# Altium footprint library Murata.PcbLib: 14 footprints
Each footprint in its own frame and in the unit in brackets; x right, y up, seen from the top. Pads: shape width x height; smd on the part's side, far side on the other; paste and mask are expansions set on the pad; w line width, h text height; cw(c..) or ccw(c..) is an arc to the next point about the centre after c.
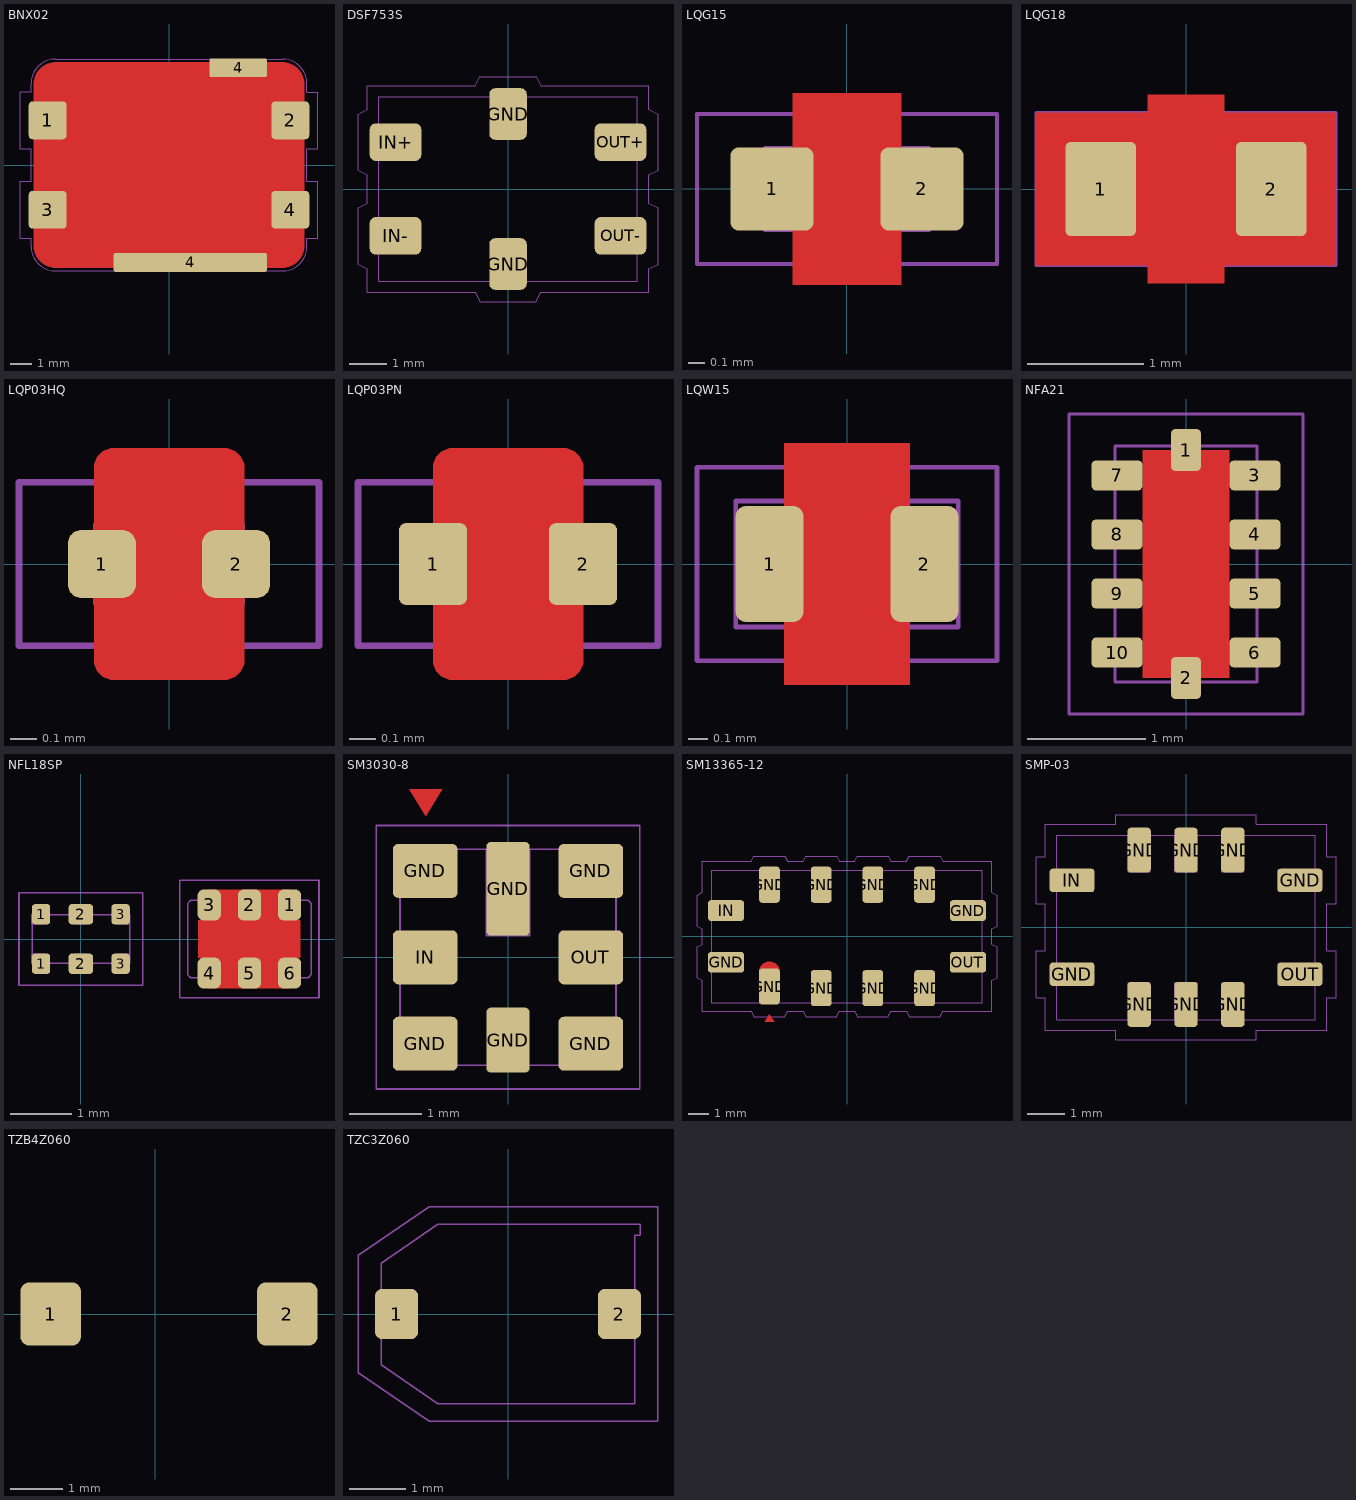
[diagram p0: the footprints below, top view; thin cyan lines are the x and y axes]

## BNX02 [mil]
pads (6):
  rrect20% 70x70 smd paste-2: 1(-224.41,82.68) 2(224.41,82.68) 3(-224.41,-82.68) 4(224.41,-82.68)
  rrect20% 283.46x35 smd paste+0: 4(39.37,-180)
  rrect20% 106.3x35 smd paste+0: 4(127.95,180)
Top Layer:
  pour cut-out: -210,190 -213.94,190 -221.67,188.46 -228.95,185.45 -235.5,181.07 -241.07,175.5 -245.45,168.95 -248.46,161.67 -250,153.94 -250,150 -250,-150 -250,-153.94 -248.46,-161.67 -245.45,-168.95 -241.07,-175.5 -235.5,-181.07 -228.95,-185.45 -221.67,-188.46 -213.94,-190 -210,-190 210,-190 213.94,-190 221.67,-188.46 228.95,-185.45 235.5,-181.07 241.07,-175.5 245.45,-168.95 248.46,-161.67 250,-153.94 250,-150 250,150 250,153.94 248.46,161.67 245.45,168.95 241.07,175.5 235.5,181.07 228.95,185.45 221.67,188.46 213.94,190 210,190
Top Designator:
  text ".Designator" at -127.64,-12.5 h35
Top Courtyard:
  lines w1: -275,-135 -255,-135 -255,-150.94 ccw(c-210,-150.94) -210,-195.94 210,-195.94 ccw(c210,-150.94) 255,-150.94 255,-135.35 275,-135.35 275,-30.35 255,-30.35 255,30 275,30 275,135 255,135 255,150.94 ccw(c210,150.94) 210,195.94 -210,195.94 ccw(c-210,150.94) -255,150.94 -255,135.35 -275,135.35 -275,30.35 -255,30.35 -255,-30 -275,-30 -275,-135
Top Component Outline:
  lines w1: -238.19,-108.27 -238.19,-57.09 -198.82,-57.09 -198.82,-108.27 -238.19,-108.27 ; -238.19,57.09 -198.82,57.09 -198.82,108.27 -238.19,108.27 -238.19,57.09 ; -236.22,-150.94 ccw(c-210,-150.94) -210,-177.17 210,-177.17 ccw(c210,-150.94) 236.22,-150.94 236.22,150.94 ccw(c210,150.94) 210,177.17 -210,177.17 ccw(c-210,150.94) -236.22,150.94 -236.22,-150.94 ; -98.43,-179.13 177.17,-179.13 177.17,-167.32 -98.43,-167.32 -98.43,-179.13 ; 78.74,167.32 78.74,179.13 177.17,179.13 177.17,167.32 78.74,167.32 ; 198.82,-108.27 238.19,-108.27 238.19,-57.09 198.82,-57.09 198.82,-108.27 ; 198.82,57.09 198.82,108.27 238.19,108.27 238.19,57.09 198.82,57.09
3D body: height 62.99, standoff 0, extent 198.82,-108.27 238.19,-57.09
3D body: height 62.99, standoff 0, extent 198.82,57.09 238.19,108.27
3D body: height 62.99, standoff 0, extent -238.19,-108.27 -198.82,-57.09
3D body: height 62.99, standoff 0, extent -238.19,57.09 -198.82,108.27
3D body: height 41.34, standoff 0, extent 78.74,167.32 177.17,179.13
3D body: height 41.34, standoff 0, extent -98.43,-179.13 177.17,-167.32
3D body: height 137.8, standoff 0, extent -236.22,-177.17 236.22,177.17

## DSF753S [mil]
height 51.18
pads (6):
  rrect30% 40x55 smd mask+2: GND(0,-80) GND(0,80)
  rrect30% 55x40 smd mask+2: IN+(-120,50) IN-(-120,-50) OUT+(120,50) OUT-(120,-50)
Top Designator:
  text ".Designator" at -127.64,-12.5 h35
Top Courtyard:
  lines w1: -160,-80 -160,-20 -150,-15 -150,15 -160,20 -160,80 -150,85 -150,110 -35,110 -30,120 30,120 35,110 150,110 150,85 160,80 160,20 150,15 150,-15 160,-20 160,-80 150,-85 150,-110 35,-110 30,-120 -30,-120 -35,-110 -150,-110 -150,-85 -160,-80
Top Component Outline:
  lines w1: -137.8,-61.81 -98.43,-61.81 -98.43,-38.19 -137.8,-38.19 ; -137.8,38.19 -98.43,38.19 -98.43,61.81 -137.8,61.81 ; -11.81,-98.43 -11.81,-59.06 11.81,-59.06 11.81,-98.43 ; -11.81,98.43 -11.81,59.06 11.81,59.06 11.81,98.43 ; 137.8,-61.81 98.43,-61.81 98.43,-38.19 137.8,-38.19 ; 137.8,38.19 98.43,38.19 98.43,61.81 137.8,61.81 ; -137.8,-98.43 -137.8,98.43 137.8,98.43 137.8,-98.43 -137.8,-98.43
3D body: height 64.96, standoff 0, extent -137.8,-98.43 137.8,98.43

## LQG15 [mil]
pads (2):
  rrect20% 20x20 smd mask+2: 1(-18,0) 2(18,0)
Top Layer:
  pour cut-out: -13,23 13,23 13,-23 -13,-23
Top Solder:
  rectangle: -16,-12 16,12
  rectangle: -8,-18 8,18
Top Designator:
  text ".Designator" at -91.17,-8.93 h25
Top Courtyard:
  lines w1: -36,-18 -36,18 36,18 36,-18 -36,-18
Top Component Outline:
  lines w1: -9.84,-9.84 -9.84,9.84 ; 9.84,-9.84 9.84,9.84 ; -19.68,-9.84 19.68,-9.84 19.68,9.84 -19.68,9.84 -19.68,-9.84
3D body: height 19.8, standoff 0.2, extent -19.68,-9.84 19.68,9.84
3D body: height 20, standoff 0, extent 10,-10 20,10
3D body: height 20, standoff 0, extent -20,-10 -10,10
3D body: height 19.81, standoff 19, extent -9,-9 0,9

## LQG18 [mil]
pads (2):
  rrect15% 24x32 smd paste-2 mask+2: 1(-29,0) 2(29,0)
Top Layer:
  pour cut-out: -13,26 -51,26 -51,-26 -13,-26 -13,-32 13,-32 13,-26 51,-26 51,26 13,26 13,32 -13,32
Top Solder:
  rectangle: -8,-27 8,27
Top Designator:
  text ".Designator" at -127.64,-12.5 h35
Top Courtyard:
  lines w1: -51,-26 -51,26 51,26 51,-26 -51,-26
Top Component Outline:
  lines w1: -17.72,-15.75 -17.72,15.75 ; 17.72,-15.75 17.72,15.75 ; -31.5,-15.75 31.5,-15.75 31.5,15.75 -31.5,15.75 -31.5,-15.75
3D body: height 29.81, standoff 29, extent -17,-14 0,14
3D body: height 29.8, standoff 0.2, extent -31.5,-15.75 31.5,15.75
3D body: height 30, standoff 0, extent -32,-16 -18,16
3D body: height 30, standoff 0, extent 18,-16 32,16

## LQP03HQ [mil]
pads (2):
  rrect40% 10x10 smd paste+0 mask+1.5: 1(-9.84,0) 2(9.84,0)
Top Layer:
  pour cut-out: -8,17 -8.6,17 -9.7,16.54 -10.54,15.7 -11,14.6 -11,14 -11,-14 -11,-14.6 -10.54,-15.7 -9.7,-16.54 -8.6,-17 -8,-17 8,-17 8.6,-17 9.7,-16.54 10.54,-15.7 11,-14.6 11,-14 11,14 11,14.6 10.54,15.7 9.7,16.54 8.6,17 8,17
Top Solder:
  rectangle: -6,-12.1 6,12.1
  rectangle: -11,-6.5 11,6.5
Top Designator:
  text ".Designator" at -72.94,-7.14 h20
Top Courtyard:
  lines w1: -22,-12 -22,12 22,12 22,-12 -22,-12
Top Component Outline:
  lines w0.2: -11.02,-5.12 11.02,-5.12 ; -11.02,5.12 11.02,5.12 ; -11.81,-4.33 -11.81,4.33 -5.91,4.33 -5.91,-4.33 -11.81,-4.33 ; -11.02,-5.91 11.02,-5.91 11.02,5.91 -11.02,5.91 -11.02,-5.91 ; 5.91,-4.33 5.91,4.33 11.81,4.33 11.81,-4.33 5.91,-4.33
3D body: height 15.75, standoff 0.2, extent -11.02,-5.91 11.02,-5.12
3D body: height 15.75, standoff 0.2, extent -11.02,5.12 11.02,5.91
3D body: height 15.75, standoff 0.2, extent -11.02,-5.12 11.02,5.12
3D body: height 7.87, standoff 0, extent 5.91,-4.33 11.81,4.33
3D body: height 7.87, standoff 0, extent -11.81,-4.33 -5.91,4.33

## LQP03PN [mil]
pads (2):
  rrect20% 10x12 smd paste+0 mask+1.5: 1(-11,0) 2(11,0)
Top Layer:
  pour cut-out: -8,17 -8.6,17 -9.7,16.54 -10.54,15.7 -11,14.6 -11,14 -11,-14 -11,-14.6 -10.54,-15.7 -9.7,-16.54 -8.6,-17 -8,-17 8,-17 8.6,-17 9.7,-16.54 10.54,-15.7 11,-14.6 11,-14 11,14 11,14.6 10.54,15.7 9.7,16.54 8.6,17 8,17
Top Solder:
  rectangle: -11,-7.5 11,7.5
  rectangle: -6,-12 6,12
Top Designator:
  text ".Designator" at -72.94,-7.14 h20
Top Courtyard:
  lines w1: -22,-12 -22,12 22,12 22,-12 -22,-12
Top Component Outline:
  lines w0.2: -7.87,-5.91 -7.87,5.91 ; 7.87,-5.91 7.87,5.91 ; -11.81,-5.91 11.81,-5.91 11.81,5.91 -11.81,5.91 -11.81,-5.91
3D body: height 12, standoff 11.77, extent -4.98,-1.99 -0.99,2
3D body: height 11, standoff 0.2, extent -11.81,-5.91 11.81,5.91
3D body: height 11.5, standoff 11, extent -11.81,-5.91 11.81,5.91
3D body: height 12, standoff 0, extent 6,-6 12,6
3D body: height 12, standoff 0, extent -12,-6 -6,6

## LQW15 [mil]
pads (2):
  rrect30% 14x24 smd mask+2: 1(-16,0) 2(16,0)
Top Layer:
  pour cut-out: -13,25 13,25 13,-25 -13,-25
Top Solder:
  rectangle: -16,-14 16,14
  rectangle: -8,-20 8,20
Top Designator:
  text ".Designator" at -91.17,-8.93 h25
Top Courtyard:
  lines w1: -31,-20 31,-20 31,20 -31,20 -31,-20
Top Component Outline:
  lines w1: -23,-13 23,-13 23,13 -23,13 -23,-13
3D body: height 19, standoff 0, extent 13,-11 21,11
3D body: height 18, standoff 5, extent -20,-10 20,10
3D body: height 19, standoff 0, extent -21,-11 -13,11
3D body: height 20, standoff 15, extent -23,-13 23,13
3D body: height 20.5, standoff 20, extent -15,-2.5 -10,2.5

## NFA21 [mil] "NF: Noise Filter"
pads (10):
  rrect30% 10x14 smd mask+1.5: 1(0,38) 2(0,-38)
  rrect30% 17x10 smd mask+1.5: 3(23,29.53) 4(23,9.84) 5(23,-9.84) 6(23,-29.53) 7(-23,29.53) 8(-23,9.84) 9(-23,-9.84) 10(-23,-29.53)
Top Layer:
  pour cut-out: -14.5,38 14.5,38 14.5,-38 -14.5,-38
Top Solder:
  rectangle: 1,-18 7,18
Top Courtyard:
  lines w1: -39,-50 -39,50 39,50 39,-50 -39,-50
Top Component Outline:
  lines w1: -23.62,-39.37 -23.62,39.37 23.62,39.37 23.62,-39.37 -23.62,-39.37
3D body: height 24, standoff 0, extent -4.47,-39.75 4.53,-31.75
3D body: height 24, standoff 0, extent -4.53,31.75 4.47,39.75
3D body: height 23.62, standoff 0, extent -23.62,-39.37 23.62,39.37
3D body: height 24, standoff 0, extent -24,25 -16,34
3D body: height 24, standoff 0, extent -24,5.31 -16,14.31
3D body: height 24, standoff 0, extent -24,-14.37 -16,-5.37
3D body: height 24, standoff 0, extent -24,-34.06 -16,-25.06
3D body: height 24, standoff 0, extent 16,25.06 24,34.06
3D body: height 24, standoff 0, extent 16,5.37 24,14.37
3D body: height 24, standoff 0, extent 16,-14.31 24,-5.31
3D body: height 24, standoff 0, extent 16,-34 24,-25
3D body: height 24, standoff 23, extent 5,-24 12,24

## NFL18SP [mil] "NFL18SP Noise Filter"
pads (12):
  rrect30% 11.81x13 smd mask+2: 1(-25.72,-16) 1(-25.72,16) 3(25.72,-16) 3(25.72,16)
  rrect50% 15x20 smd paste+0 mask+2: 1(135,22) 2(109,22) 3(83,22) 4(83,-22) 5(109,-22) 6(135,-22)
  rrect30% 15.75x13 smd mask+2: 2(0,-16) 2(0,16)
Top Layer:
  pour cut-out: 76,-12 83,-12 83,-32 135,-32 135,-12 142,-12 142,12 135,12 135,32 83,32 83,12 76,12
Top Solder:
  region: 124,5 124,-5 134,-5 134,5
Top Designator:
  text ".Designator" at -127.64,-12.5 h35
Top Courtyard:
  lines w1: -40,-30 40,-30 40,30 -40,30 -40,-30 ; 64,-38 64,38 154,38 154,-38 64,-38
Top Component Outline:
  lines w1: -31.5,15.75 -31.5,-15.75 31.5,-15.75 31.5,15.75 ; -31.5,15.75 31.5,15.75 ; -31.5,15.75 31.5,15.75 ; -31.75,-16 -19.68,-16 -23.62,-9.84 -31.73,-9.84 -31.75,-16 ; -31.73,9.84 -23.62,9.84 -19.68,16 -31.75,16 -31.75,9.84 ; -7.87,-16 -3.94,-9.84 3.94,-9.84 7.87,-16 -7.87,-16 ; -7.87,16 7.87,16 3.94,9.84 -3.94,9.84 -7.87,16 ; 19.68,-16 23.62,-9.84 31.73,-9.84 31.75,-16 19.68,-16 ; 19.68,16 23.62,9.84 31.73,9.84 31.75,16 19.68,16 ; 69,-23 71,-25 147,-25 149,-23 149,23 147,25 71,25 69,23 69,-23
3D body: height 37.44, standoff 0, extent 116.5,-8 141.5,8
3D body: height 37.8, standoff 0, extent 102,-26 116,-18
3D body: height 37.8, standoff 0, extent 76,-26 90,-18
3D body: height 37.8, standoff 0, extent 128,-26 142,-18
3D body: height 37.8, standoff 0, extent 76,18 90,26
3D body: height 37.8, standoff 0, extent 128,18 142,26
3D body: height 37.4, standoff 1, extent 69,-25 149,25
3D body: height 37.8, standoff 0, extent 102,18 116,26
3D body: height 24, standoff 0, extent -31.73,10 -19.68,16
3D body: height 24, standoff 0, extent -7.31,9.84 7.87,15.84
3D body: height 24, standoff 0, extent 19.68,10 31.76,16
3D body: height 24, standoff 0, extent -31.76,-16 -19.68,-10
3D body: height 24, standoff 0, extent -7.87,-15.84 7.31,-9.84
3D body: height 24, standoff 0, extent 19.68,-16 31.73,-10
3D body: height 23.62, standoff 0, extent -31.5,-15.75 31.5,15.75

## SM3030-8 [mm]
pads (8):
  rrect20% 0.9x0.75 smd mask+0.051: GND(-1.15,-1.2) GND(-1.15,1.2) GND(1.15,-1.2) GND(1.15,1.2) IN(-1.15,0) OUT(1.15,0)
  rrect20% 0.6x0.9 smd mask+0.051: GND(0,-1.15)
  rrect20% 0.6x1.3 smd mask+0.051: GND(0,0.95)
Top Layer:
  region: -1.143,1.956 -0.914,2.337 -1.372,2.337
Top Courtyard:
  lines w0.025: -1.829,-1.829 1.829,-1.829 1.829,1.829 -1.829,1.829 -1.829,-1.829
Top Component Outline:
  lines w0.025: -1.5,-0.9 -0.75,-0.9 -0.75,-1.5 ; -1.5,-0.3 -0.75,-0.3 -0.75,0.3 -1.5,0.3 ; -1.5,0.9 -0.75,0.9 -0.75,1.5 ; -0.3,1.5 -0.3,0.3 0.3,0.3 0.3,1.5 ; 0.75,-1.5 0.75,-0.9 1.5,-0.9 ; 0.75,1.5 0.75,0.9 1.5,0.9 ; 1.5,-0.3 0.75,-0.3 0.75,0.3 1.5,0.3 ; -1.5,-1.5 -1.5,1.5 1.5,1.5 1.5,-1.5 -1.5,-1.5
3D body "SW3dPS-DCC6C.STEP": height 1.14, standoff -0.09, extent -1.5,-1.5 1.5,1.5

## SM13365-12 [mil]
height 64.96
pads (12):
  rrect30% 70x40 smd mask+2: GND(-233.86,-50) GND(233.86,50) IN(-233.86,50) OUT(233.86,-50)
  rrect30% 40x70 smd mask+2: GND(-150,-96.9) GND(-150,100) GND(-50,-100) GND(-50,100) GND(50,-100) GND(50,100) GND(150,-100) GND(150,100)
Top Layer:
  region: -150,-150 -159,-165 -141,-165
  region: -130,-81 -130,-69 -130,-65.02 -133.04,-57.67 -138.67,-52.04 -146.02,-49 -150,-49 -153.98,-49 -161.33,-52.04 -166.96,-57.67 -170,-65.02 -170,-69 -170,-81
Top Designator:
  text ".Designator" at -127.64,-12.5 h35
Top Courtyard:
  lines w1: -290,-80 -280,-85 -280,-145 -185,-145 -180,-155 -120,-155 -115,-145 -85,-145 -80,-155 -20,-155 -15,-145 15,-145 20,-155 80,-155 85,-145 115,-145 120,-155 180,-155 185,-145 280,-145 280,-85 290,-80 290,-20 280,-15 280,15 290,20 290,80 280,85 280,145 185,145 180,155 120,155 115,145 85,145 80,155 20,155 15,145 -15,145 -20,155 -80,155 -85,145 -115,145 -120,155 -180,155 -185,145 -280,145 -280,85 -290,80 -290,20 -280,15 -280,-15 -290,-20 -290,-80
Top Component Outline:
  lines w1: -261.86,-65.75 -202.8,-65.75 -202.8,-34.25 -261.86,-34.25 ; -261.86,34.25 -202.8,34.25 -202.8,65.75 -261.86,65.75 ; -165.75,-128 -165.75,-69 cw(c-150,-69) -134.25,-69 -134.25,-128 ; -165.75,128 -165.75,68.94 -134.25,68.94 -134.25,128 ; -65.75,-128 -65.75,-68.94 -34.25,-68.94 -34.25,-128 ; -65.75,128 -65.75,68.94 -34.25,68.94 -34.25,128 ; 34.25,-128 34.25,-68.94 65.75,-68.94 65.75,-128 ; 34.25,128 34.25,68.94 65.75,68.94 65.75,128 ; 134.25,-128 134.25,-68.94 165.75,-68.94 165.75,-128 ; 134.25,128 134.25,68.94 165.75,68.94 165.75,128 ; 261.86,-65.75 202.8,-65.75 202.8,-34.25 261.86,-34.25 ; 261.86,34.25 202.8,34.25 202.8,65.75 261.86,65.75 ; -261.81,-127.95 -261.81,127.95 261.81,127.95 261.81,-127.95 -261.81,-127.95
3D body "User Library-854909 pass.STEP": height 68.9, standoff 0, extent -261.8,-127.95 261.82,127.96

## SMP-03 [mil]
pads (10):
  rrect30% 48x25 smd mask+2: GND(-121.61,-50) GND(121.61,50) IN(-121.61,50) OUT(121.61,-50)
  rrect30% 25x48 smd mask+2: GND(-50,-82.24) GND(-50,82.24) GND(0,-82.24) GND(0,82.24) GND(50,-82.24) GND(50,82.24)
Top Solder:
  region: -115,-115 -130,-145 -100,-145
Top Designator:
  text ".Designator" at -127.64,-12.5 h35
Top Courtyard:
  lines w1: -160,-75 -160,-25 -150,-25 -150,25 -160,25 -160,75 -150,75 -150,110 -75,110 -75,120 75,120 75,110 150,110 150,75 160,75 160,25 150,25 150,-25 160,-25 160,-75 150,-75 150,-110 75,-110 75,-120 -75,-120 -75,-110 -150,-110 -150,-75 -160,-75
Top Component Outline:
  lines w1: -137.8,-61.81 -98.43,-61.81 -98.43,-38.19 -137.8,-38.19 ; -137.8,38.19 -98.43,38.19 -98.43,61.81 -137.8,61.81 ; -61.81,-98.43 -61.81,-59.06 -38.19,-59.06 -38.19,-98.43 ; -61.81,98.43 -61.81,59.06 -38.19,59.06 -38.19,98.43 ; -11.81,-98.43 -11.81,-59.06 11.81,-59.06 11.81,-98.43 ; -11.81,98.43 -11.81,59.06 11.81,59.06 11.81,98.43 ; 38.19,-98.43 38.19,-59.06 61.81,-59.06 61.81,-98.43 ; 38.19,98.43 38.19,59.06 61.81,59.06 61.81,98.43 ; 137.8,-61.81 98.43,-61.81 98.43,-38.19 137.8,-38.19 ; 137.8,38.19 98.43,38.19 98.43,61.81 137.8,61.81 ; -137.8,-98.43 -137.8,98.43 137.8,98.43 137.8,-98.43 -137.8,-98.43
3D body "User Library-TA0395A SAW Filter 7_0mm x 5_0mm SMD.STEP": height 78.74, standoff -0.39, extent -137.79,-98.42 137.8,98.43
3D body: height 79, standoff 74, extent -109.92,-59.96 -90,-40

## TZB4Z060 [mm]
pads (2):
  rrect30% 1.15x1.2 smd mask+0.051: 1(-1.981,0) 2(2.5,0)
3D body "User Library-trimmer.step": height 3.2, standoff -0.05, extent -3.523,-2.1 3.523,2.1

## TZC3Z060 [mil]
pads (2):
  rrect30% 30x35 smd mask+2: 1(-78,0) 2(78,0)
Top Courtyard:
  lines w1: -105,-41 -105,41 -55,75 105,75 105,-75 -55,-75 -105,-41
Top Component Outline:
  lines w1: -88.58,-35.43 -49.21,-62.99 88.58,-62.99 88.58,55.12 92.52,55.12 92.52,62.99 -49.21,62.99 -88.58,35.43 -88.58,-35.43
3D body "TZC3-Z030.STEP": height 61.89, standoff -1, extent -88.57,-62.84 92.53,63.14